# Altium footprint library PcbLib1.PcbLib: 3 footprints
Each footprint in its own frame and in the unit in brackets; x right, y up, seen from the top. Pads: shape width x height; smd on the part's side, far side on the other; paste and mask are expansions set on the pad; w line width, h text height; cw(c..) or ccw(c..) is an arc to the next point about the centre after c.
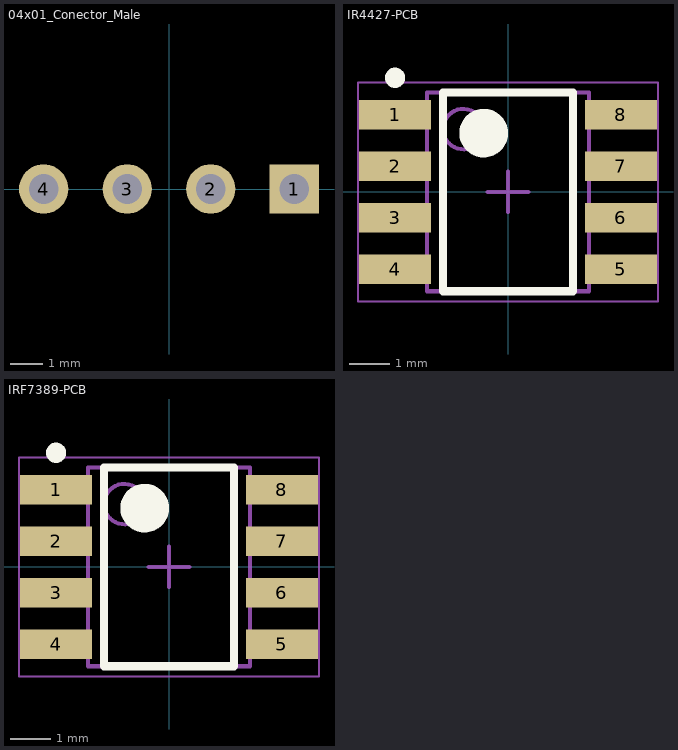
[diagram p0: the footprints below, top view; thin cyan lines are the x and y axes]

## 04x01_Conector_Male [mm] "0022032041"
pads (4):
  rect 1.5x1.5 hole 0.9: 1(3.81,0)
  round 1.5 hole 0.9: 2(1.27,0) 3(-1.27,0) 4(-3.81,0)
3D body "022032041.stp": height 3.38, standoff -10.84, extent -4.953,-1.181 4.953,1.181

## IR4427-PCB [mm] "SOIC, 8-Leads, Body 4,85x3,90mm, Pitch 1,27mm, IPC Medium Density"
height 1.75
pads (8):
  rect 1.78x0.72 smd: 1(-2.785,1.905) 2(-2.785,0.635) 3(-2.785,-0.635) 4(-2.785,-1.905) 5(2.785,-1.905) 6(2.785,-0.635) 7(2.785,0.635) 8(2.785,1.905)
Top Overlay:
  circle w0.25: c-2.785,2.815 r0.125
  circle w0.6: c-0.6,1.45 r0.3
  lines w0.2: -1.6,-2.45 -1.6,2.45 1.6,2.45 1.6,-2.45 -1.6,-2.45
Mechanical 13:
  circle w0.1: c-1.1,1.55 r0.5
  lines w0.1: -2,-2.45 -2,2.45 2,2.45 2,-2.45 -2,-2.45
Mechanical 15:
  lines w0.05: -3.7,-2.7 -3.7,2.7 3.7,2.7 3.7,-2.7 -3.7,-2.7
  lines w0.1: -0.5,0 0.5,0 ; 0,-0.5 0,0.5
3D body: height 1.75, standoff 0.1, extent -2,-2.45 2,2.45

## IRF7389-PCB [mm] "SOIC, 8-Leads, Body 4,85x3,90mm, Pitch 1,27mm, IPC Medium Density"
height 1.75
pads (8):
  rect 1.78x0.72 smd: 1(-2.785,1.905) 2(-2.785,0.635) 3(-2.785,-0.635) 4(-2.785,-1.905) 5(2.785,-1.905) 6(2.785,-0.635) 7(2.785,0.635) 8(2.785,1.905)
Top Overlay:
  circle w0.25: c-2.785,2.815 r0.125
  circle w0.6: c-0.6,1.45 r0.3
  lines w0.2: -1.6,-2.45 -1.6,2.45 1.6,2.45 1.6,-2.45 -1.6,-2.45
Mechanical 13:
  circle w0.1: c-1.1,1.55 r0.5
  lines w0.1: -2,-2.45 -2,2.45 2,2.45 2,-2.45 -2,-2.45
Mechanical 15:
  lines w0.05: -3.7,-2.7 -3.7,2.7 3.7,2.7 3.7,-2.7 -3.7,-2.7
  lines w0.1: -0.5,0 0.5,0 ; 0,-0.5 0,0.5
3D body: height 1.75, standoff 0.1, extent -2,-2.45 2,2.45